# Altium schematic symbol library TB6618FNG.SchLib: 1 symbol
Pins are listed as number, name and electrical type; pins without a type are passive.

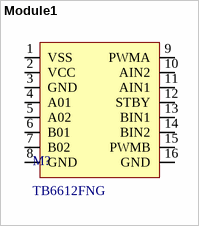
[diagram p0: symbol Module1]

## Module1
designator M?, comment TB6612FNG
footprint PCBComponent_1
pins: 1 VSS, 2 VCC, 3 GND, 4 A01, 5 A02, 6 B01, 7 B02, 8 GND, 9 PWMA, 10 AIN2, 11 AIN1, 12 STBY, 13 BIN1, 14 BIN2, 15 PWMB, 16 GND